# EAGLE library part EE310_RCTANK_PROTOA_317030001 (library pwmCatMoto)
Bluetooth V4.0 Hm-11 Ble Module
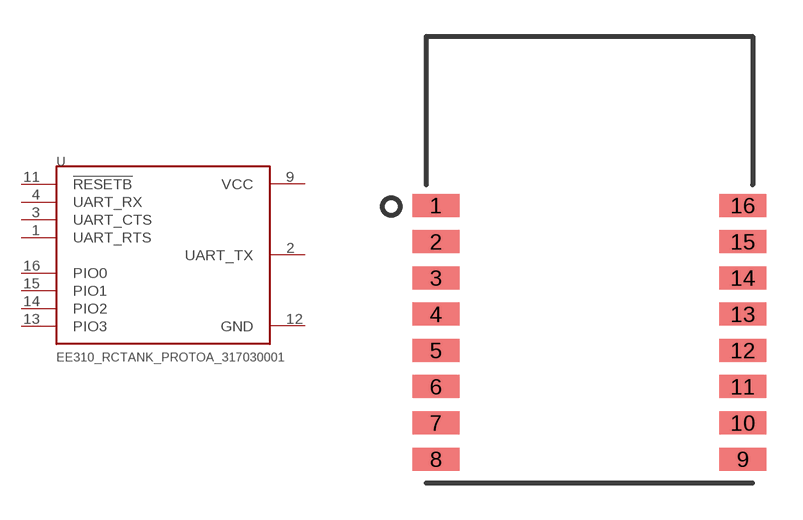
[diagram p0: symbol with the pads of EE310_RCTANK_PROTOA_XCVR_317030001; footprint EE310_RCTANK_PROTOA_XCVR_317030001]

Designator prefix U

## EE310_RCTANK_PROTOA_317030001 (AVAILABILITY: Bad; DESCRIPTION: BLUETOOTH V4.0 HM-11 BLE MODULE; MF: Seeed Studio; MP: 317030001; PACKAGE: Module Seeed Studio; PRICE: 12.89 USD)  [EE310_RCTANK_PROTOA_XCVR_317030001]
1  UART_RTS
2  UART_TX  out
3  UART_CTS
4  UART_RX  in
9  VCC  pwr
11  !RESETB  in
12  GND  pwr
13  PIO3
14  PIO2
15  PIO1
16  PIO0

## Footprint EE310_RCTANK_PROTOA_XCVR_317030001 (pad centres in mm)
smd 1.95 x 0.95: 1 -6.35,2.25; 2 -6.35,0.75; 3 -6.35,-0.75; 4 -6.35,-2.25; 5 -6.35,-3.75; 6 -6.35,-5.25; 7 -6.35,-6.75; 8 -6.35,-8.25; 9 6.35,-8.25; 10 6.35,-6.75; 11 6.35,-5.25; 12 6.35,-3.75; 13 6.35,-2.25; 14 6.35,-0.75; 15 6.35,0.75; 16 6.35,2.25